# Altium schematic symbol library 10129382-912002BLF.SchLib: 1 symbol
Pins are listed as number, name and electrical type; pins without a type are passive.

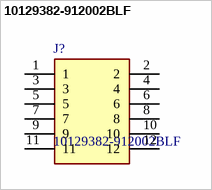
[diagram p0: symbol 10129382-912002BLF]

## 10129382-912002BLF
designator J?
Connector Header Through Hole, Right Angle 12 position 0.100" (2.54mm); Manufacturer_Name: Amphenol; Geometry.Height: 5.03mm; Mouser Part Number: *; Mouser Price/Stock: *; Manufacturer_Part_Number: 10129382-912002BLF; Datasheet Link: https://cdn.amphenol-cs.com/media/wysiwyg/files/drawing/10129382.pdf
footprint HDRRA12W67P254_2X6_1524X254X503P
pins: 1, 2, 3, 4, 5, 6, 7, 8, 9, 10, 11, 12